# Altium schematic symbol library 3SMAJ5951B.SchLib: 1 symbol
Pins are listed as number, name and electrical type; pins without a type are passive.

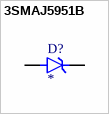
[diagram p0: symbol 3SMAJ5951B]

## 3SMAJ5951B
designator D?
Zener Diode Single 120V 5% 380Ohm 3000mW 2-Pin SMA T/R; MF: Micro Commercial Components; MP: 3SMAJ5951B; SnapEDA_Link: https://www.snapeda.com/parts/3SMAJ5951B/Micro+Commercial+Components/view-part/?ref=snap; Package: None; Value: *; Check_prices: https://www.snapeda.com/parts/3SMAJ5951B/Micro+Commercial+Components/view-part/?ref=eda
footprint DIOM4325X244N
pins: A, C K